# EAGLE library part PND_26POS_CONN (library UBCSolar)
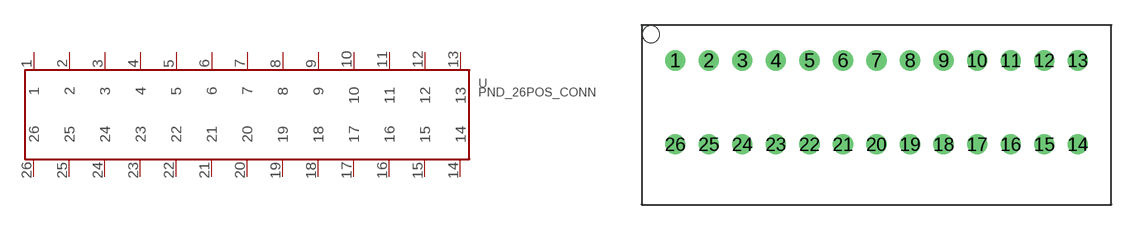
[diagram p3: symbol with the pads of PND_26POS_CONN; footprint PND_26POS_CONN]

Designator prefix -

## PND_26POS_CONN  [PND_26POS_CONN]
1  1
2  2
3  3
4  4
5  5
6  6
7  7
8  8
9  9
10  10
11  11
12  12
13  13
14  14
15  15
16  16
17  17
18  18
19  19
20  20
21  21
22  22
23  23
24  24
25  25
26  26

## Footprint PND_26POS_CONN (pad centres in mm)
PND connector, 26pos, used to connect MCN to dashboard PCB https://www.digikey.ca/product-detail/en/jst-sales-america-inc/B26B-PNDZS-1(T)(LF)(SN)/455-2331-ND/1788547
drill 0.7: 1 -12,2.5; 2 -10,2.5; 3 -8,2.5; 4 -6,2.5; 5 -4,2.5; 6 -2,2.5; 7 0,2.5; 8 2,2.5; 9 4,2.5; 10 6,2.5; 11 8,2.5; 12 10,2.5; 13 12,2.5; 14 12,-2.5; 15 10,-2.5; 16 8,-2.5; 17 6,-2.5; 18 4,-2.5; 19 2,-2.5; 20 0,-2.5; 21 -2,-2.5; 22 -4,-2.5; 23 -6,-2.5; 24 -8,-2.5; 25 -10,-2.5; 26 -12,-2.5
hole 1 at -13.45,4.05